# EAGLE library part AD8207WBRZ (library tinyPFC)
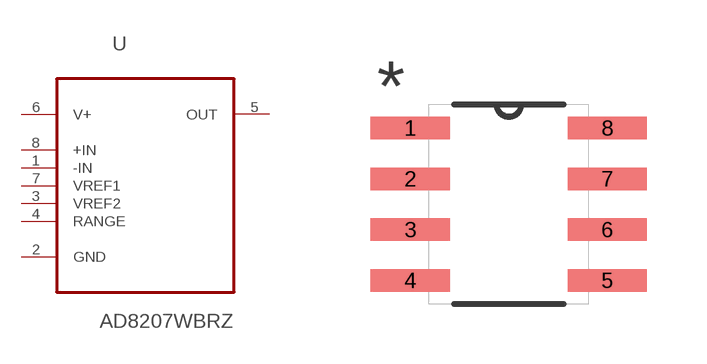
[diagram p2: symbol with the pads of SOIC127P600X175-8N; footprint SOIC127P600X175-8N]

Designator prefix U

## AD8207WBRZ (DESCRIPTION: Bidirectional Difference Amplifier; MPN: AD8207WBRZ; OC_FARNELL: 1864673; OC_NEWARK: 85R6439; PACKAGE: SOIC-8; SUPPLIER: Analog Devices)  [SOIC127P600X175-8N]
1  -IN  in
2  GND  pas
3  VREF2  in
4  RANGE  in
5  OUT  out
6  V+  pwr
7  VREF1  in
8  +IN  in

## Footprint SOIC127P600X175-8N (pad centres in mm)
smd 1.981 x 0.559: 1 -2.464,1.905; 2 -2.464,0.635; 3 -2.464,-0.635; 4 -2.464,-1.905; 5 2.464,-1.905; 6 2.464,-0.635; 7 2.464,0.635; 8 2.464,1.905